# Altium schematic symbol library VCNL3030X01-GS08.SchLib: 2 symbols
Pins are listed as number, name and electrical type; pins without a type are passive.

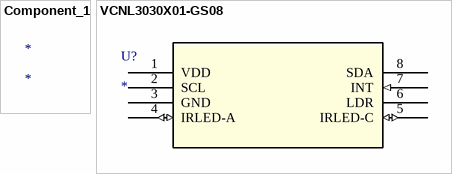
[diagram p0: symbols Component_1 to VCNL3030X01-GS08]

## Component_1
designator *

## VCNL3030X01-GS08
designator U?
No Description Available; Mfr_Name: Vishay; RefDes: RefDes; Type: Type
footprint SMT_X01-GS08_VIS
pins: 1 VDD (power), 2 SCL, 3 GND (power), 4 IRLED-A (io), 5 IRLED-C (io), 6 LDR, 7 INT (in), 8 SDA